# EAGLE library part U4_RTC (library dslparts)
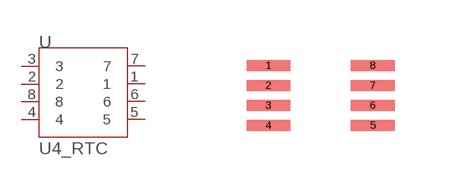
[diagram p10: symbol with the pads of TSSOP8; footprint TSSOP8]

Designator prefix -

## U4_RTC  [TSSOP8]
1  1
2  2
3  3
4  4
5  5
6  6
7  7
8  8

## Footprint TSSOP8 (pad centres in mm)
smd 1.092 x 0.279: 1 -1.95,1; 2 -1.95,0.5; 3 -1.95,0; 4 -1.95,-0.5; 5 0.66,-0.5; 6 0.66,0; 7 0.66,0.5; 8 0.66,1